# Altium footprint library RES.PcbLib: 21 footprints (part 2 of 2)
Each footprint in its own frame and in the unit in brackets; x right, y up, seen from the top. Pads: shape width x height; smd on the part's side, far side on the other; paste and mask are expansions set on the pad; w line width, h text height; cw(c..) or ccw(c..) is an arc to the next point about the centre after c.
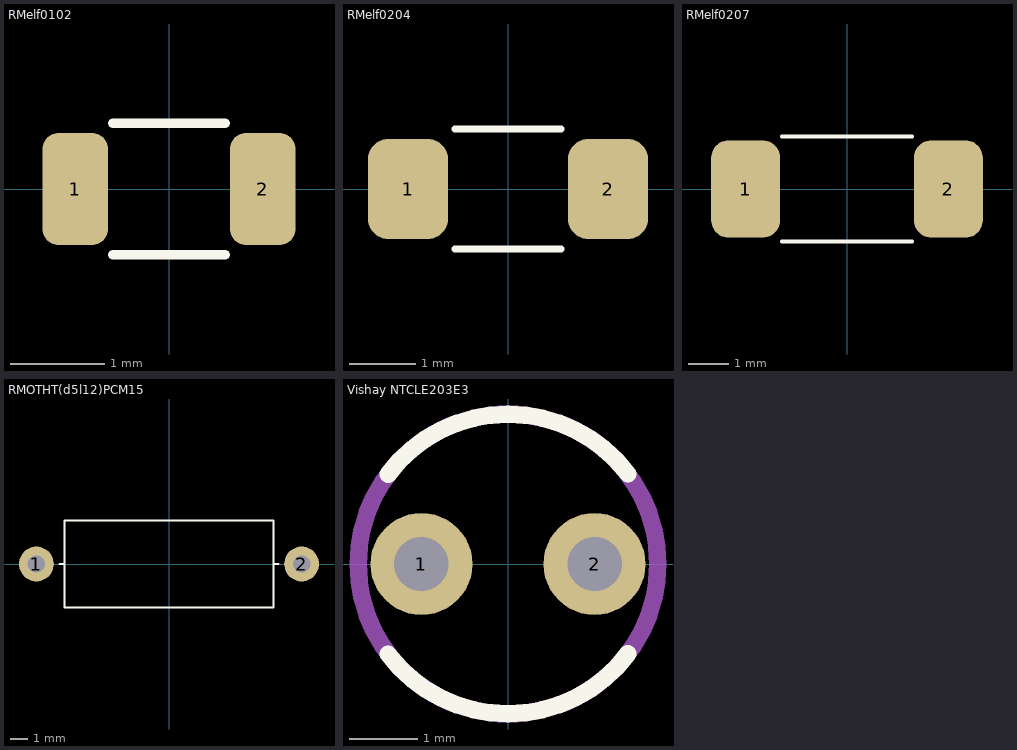
[diagram p1: the footprints below, top view; thin cyan lines are the x and y axes]

## RMelf0102 [mm]
height 1.1
pads (2):
  rrect50% 0.7x1.2 smd: 1(-1,0) 2(1,0)
Top Overlay:
  lines w0.1: -0.6,-0.7 0.6,-0.7 ; -0.6,0.7 0.6,0.7
3D body "Melf-0102.STEP": height 1.25, standoff 0.15, extent -1,-0.55 1,0.55

## RMelf0204 [mm]
height 0.55
pads (2):
  rrect50% 1.2x1.5 smd: 1(-1.5,0) 2(1.5,0)
Top Overlay:
  lines w0.1: -0.8,-0.9 0.8,-0.9 ; -0.8,0.9 0.8,0.9
3D body "Melf-0204.STEP": height 1.4, standoff 0, extent -1.7,-0.7 1.7,0.7

## RMelf0207 [mm] "Metal Electrode Face (MELF) Diode; Body 5 x 2.5 mm (LxDia)"
height 2.5
pads (2):
  rrect50% 1.7x2.4 smd: 1(-2.5,0) 2(2.5,0)
Top Overlay:
  lines w0.1: -1.6,-1.3 1.6,-1.3 ; -1.6,1.3 1.6,1.3
3D body "Melf-0207.STEP": height 2.2, standoff 0, extent -2.65,-1.1 2.65,1.1

## RMOTHT(d5l12)PCM15 [mm] "Res metal oxide d5 l12 PCM15"
pads (2):
  round 2 hole 1: 1(-7.62,0) 2(7.62,0)
Top Overlay:
  lines w0.1: -6.3,0 -6,0 ; 6,0 6.313,0 ; -6,-2.5 6,-2.5 6,2.5 -6,2.5 -6,-2.5
3D body "R1W MO 600.SLDPRT": height 5, standoff -2.54, extent -7.918,-2.5 7.918,2.5

## Vishay NTCLE203E3 [mm] "Thermistor NTC 2-Pin Radial"
pads (2):
  round 1.5 hole 0.8: 1(-1.27,0) 2(1.27,0)
Top Overlay:
  lines w0.254: -1.761,-1.321 ccw(c-0.002,0) 1.759,-1.319 ; -1.759,1.319 cw(c0.002,0) 1.761,1.321
Top Assembly:
  circle w0.254: c0,0 r2.2
3D body "Vishay Intertechnology-NTCLE203E3103SB0.step": height 9.99, standoff -3, extent -2.1,-1.999 2.096,2